# EAGLE library part 691321300024 (library Wuerth_Elektronik_eiCan_Terminal_Blocks_v2.0)
WR-TBL Serie 321 - 3.81mm Vertical PCB Header , 24 pins
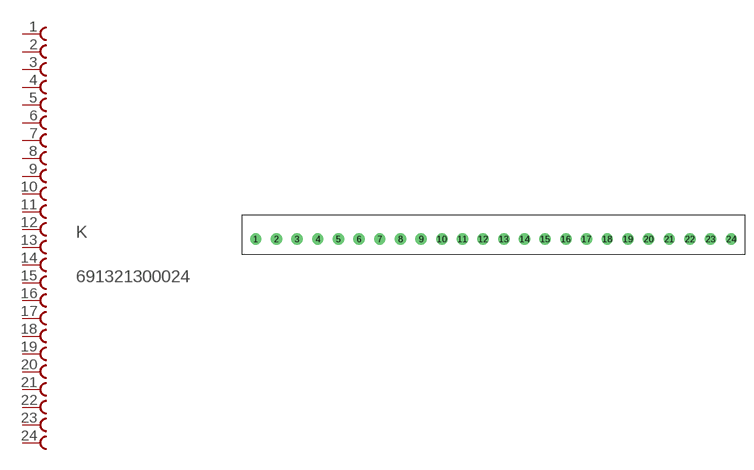
[diagram p35: symbol with the pads of 691321300024; footprint 691321300024]

Designator prefix K

## 691321300024  [691321300024]
1  1  pas
2  2  pas
3  3  pas
4  4  pas
5  5  pas
6  6  pas
7  7  pas
8  8  pas
9  9  pas
10  10  pas
11  11  pas
12  12  pas
13  13  pas
14  14  pas
15  15  pas
16  16  pas
17  17  pas
18  18  pas
19  19  pas
20  20  pas
21  21  pas
22  22  pas
23  23  pas
24  24  pas

## Footprint 691321300024 (pad centres in mm)
WR-TBL Serie 321 - 3.81mm Vertical PCB Header , 24 Pins
drill 1.4 round: 1 -49.53,0; 2 -45.72,0; 3 -41.91,0; 4 -38.1,0; 5 -34.29,0; 6 -30.48,0; 7 -26.67,0; 8 -22.86,0; 9 -19.05,0; 10 -15.24,0; 11 -11.43,0; 12 -7.62,0; 13 -3.81,0; 14 0,0; 15 3.81,0; 16 7.62,0; 17 11.43,0; 18 15.24,0; 19 19.05,0; 20 22.86,0; 21 26.67,0; 22 30.48,0; 23 34.29,0; 24 38.1,0